# Altium footprint library RAMBo.PcbLib: 56 footprints (part 1 of 4)
Each footprint in its own frame and in the unit in brackets; x right, y up, seen from the top. Pads: shape width x height; smd on the part's side, far side on the other; paste and mask are expansions set on the pad; w line width, h text height; cw(c..) or ccw(c..) is an arc to the next point about the centre after c.
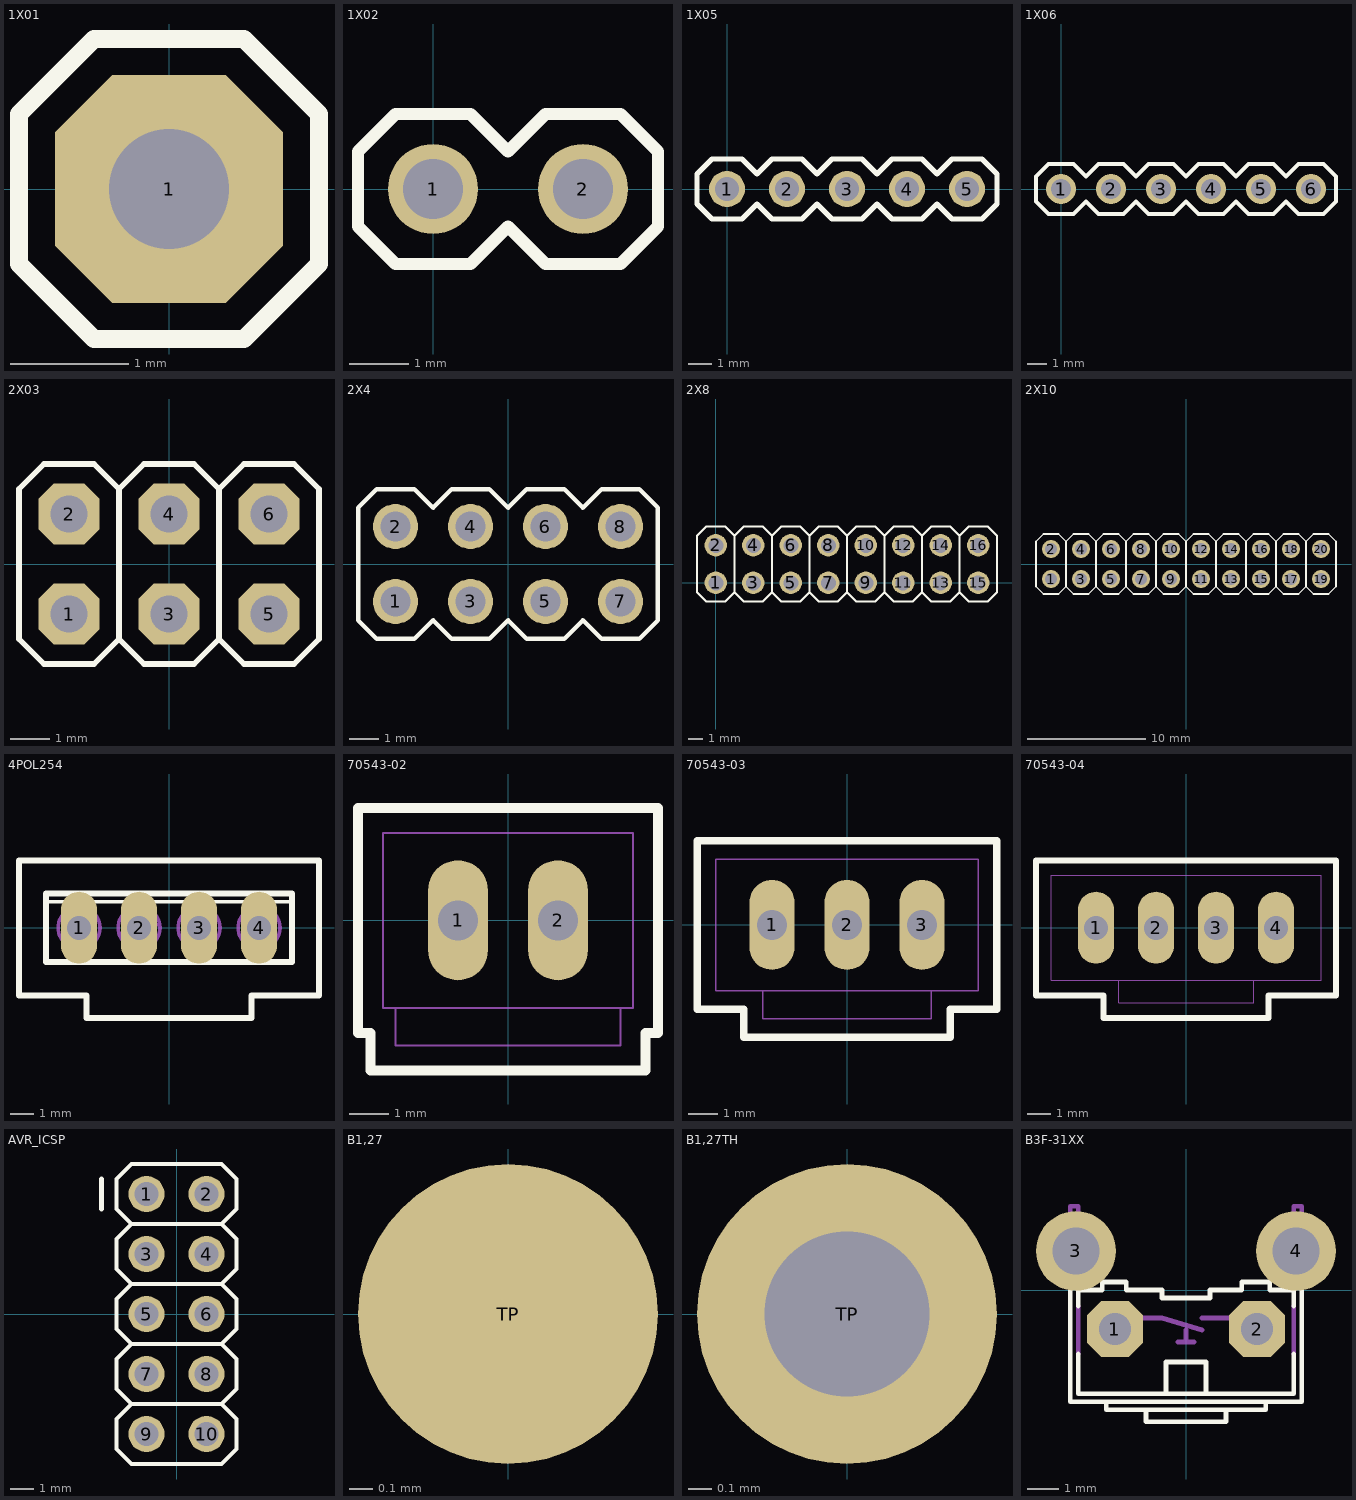
[diagram p0: the footprints below, top view; thin cyan lines are the x and y axes]

## 1X01 [mil] "1X01"
pads (1):
  oct 76x76 hole 40: 1(0,0)
Top Overlay:
  lines w6: -50,-25 -25,-50 25,-50 50,-25 50,25 25,50 -25,50 -50,25 -50,-25
Mechanical 16:
  rectangle: -10,-10 10,10

## 1X02 [mil] "1X02"
pads (2):
  round 60 hole 40: 1(0,0) 2(100,0)
Top Overlay:
  lines w8: -50,-25 -25,-50 25,-50 50,-25 75,-50 125,-50 150,-25 150,25 125,50 75,50 50,25 25,50 -25,50 -50,25 -50,-25
Mechanical 16:
  rectangle: -10,-10 10,10
  rectangle: 90,-10 110,10

## 1X05 [mil] "1X05"
pads (5):
  round 60 hole 40: 1(0,0) 2(100,0) 3(200,0) 4(300,0) 5(400,0)
Top Overlay:
  lines w8: -50,-25 -25,-50 25,-50 50,-25 75,-50 125,-50 150,-25 175,-50 225,-50 250,-25 275,-50 325,-50 350,-25 375,-50 425,-50 450,-25 450,25 425,50 375,50 350,25 325,50 275,50 250,25 225,50 175,50 150,25 125,50 75,50 50,25 25,50 -25,50 -50,25 -50,-25
Mechanical 16:
  rectangle: -10,-10 10,10
  rectangle: 90,-10 110,10
  rectangle: 190,-10 210,10
  rectangle: 290,-10 310,10
  rectangle: 390,-10 410,10

## 1X06 [mil] "1X06"
pads (6):
  round 60 hole 40: 1(0,0) 2(100,0) 3(200,0) 4(300,0) 5(400,0) 6(500,0)
Top Overlay:
  lines w8: -50,-25 -25,-50 25,-50 50,-25 75,-50 125,-50 150,-25 175,-50 225,-50 250,-25 275,-50 325,-50 350,-25 375,-50 425,-50 450,-25 475,-50 525,-50 550,-25 550,25 525,50 475,50 450,25 425,50 375,50 350,25 325,50 275,50 250,25 225,50 175,50 150,25 125,50 75,50 50,25 25,50 -25,50 -50,25 -50,-25
Mechanical 16:
  rectangle: -10,-10 10,10
  rectangle: 90,-10 110,10
  rectangle: 190,-10 210,10
  rectangle: 290,-10 310,10
  rectangle: 390,-10 410,10
  rectangle: 490,-10 510,10

## 2X03 [mil] "2X03"
pads (6):
  oct 61.02x61.02 hole 37.4: 1(-100,-50) 2(-100,50) 3(0,-50) 4(0,50) 5(100,-50) 6(100,50)
Top Overlay:
  lines w6: -50,-75 -50,75 ; -50,-75 -25,-100 25,-100 50,-75 ; -50,-75 -75,-100 -125,-100 -150,-75 -150,75 -125,100 -75,100 -50,75 ; -50,75 -25,100 25,100 50,75 ; 50,-75 75,-100 125,-100 150,-75 150,75 125,100 75,100 50,75 ; 50,-75 50,75
Mechanical 16:
  rectangle: 90,-60 110,-40
  rectangle: 90,40 110,60
  rectangle: -10,-60 10,-40
  rectangle: -10,40 10,60
  rectangle: -110,40 -90,60
  rectangle: -110,-60 -90,-40

## 2X4 [mil] "2X4"
pads (8):
  round 60 hole 40: 1(-150,-50) 2(-150,50) 3(-50,-50) 4(-50,50) 5(50,-50) 6(50,50) 7(150,-50) 8(150,50)
Top Overlay:
  lines w6: -200,-75 -200,75 -175,100 -125,100 -100,75 -75,100 -25,100 0,75 25,100 75,100 100,75 125,100 175,100 200,75 200,-75 175,-100 125,-100 100,-75 75,-100 25,-100 0,-75 -25,-100 -75,-100 -100,-75 -125,-100 -175,-100 -200,-75
Mechanical 16:
  rectangle: 140,-60 160,-40
  rectangle: 140,40 160,60
  rectangle: 40,-60 60,-40
  rectangle: 40,40 60,60
  rectangle: -60,-60 -40,-40
  rectangle: -60,40 -40,60
  rectangle: -160,40 -140,60
  rectangle: -160,-60 -140,-40

## 2X8 [mil] "2X8"
pads (16):
  round 60 hole 40: 1(0,0) 2(0,100) 3(100,0) 4(100,100) 5(200,0) 6(200,100) 7(300,0) 8(300,100) 9(400,0) 10(400,100) 11(500,0) 12(500,100) 13(600,0) 14(600,100) 15(700,0) 16(700,100)
Top Overlay:
  lines w6: 50,-25 50,125 ; 50,-25 75,-50 125,-50 150,-25 ; 50,-25 25,-50 -25,-50 -50,-25 -50,125 -25,150 25,150 50,125 ; 50,125 75,150 125,150 150,125 ; 150,-25 150,125 ; 150,-25 175,-50 225,-50 250,-25 ; 150,125 175,150 225,150 250,125 ; 250,-25 250,125 ; 250,-25 275,-50 325,-50 350,-25 ; 250,125 275,150 325,150 350,125 ; 350,-25 350,125 ; 350,-25 375,-50 425,-50 450,-25 ; 350,125 375,150 425,150 450,125 ; 450,-25 450,125 ; 450,-25 475,-50 525,-50 550,-25 ; 450,125 475,150 525,150 550,125 ; 550,-25 550,125 ; 550,-25 575,-50 625,-50 650,-25 ; 550,125 575,150 625,150 650,125 ; 650,-25 650,125 ; 650,-25 675,-50 725,-50 750,-25 750,125 725,150 675,150 650,125
Mechanical 16:
  rectangle: 690,-10 710,10
  rectangle: 690,90 710,110
  rectangle: 590,-10 610,10
  rectangle: 590,90 610,110
  rectangle: 490,-10 510,10
  rectangle: 390,-10 410,10
  rectangle: 290,-10 310,10
  rectangle: 490,90 510,110
  rectangle: 390,90 410,110
  rectangle: 290,90 310,110
  rectangle: 190,-10 210,10
  rectangle: 190,90 210,110
  rectangle: 90,-10 110,10
  rectangle: 90,90 110,110
  rectangle: -10,90 10,110
  rectangle: -10,-10 10,10

## 2X10 [mil] "2X10"
pads (20):
  round 60 hole 40: 1(-450,-50) 2(-450,50) 3(-350,-50) 4(-350,50) 5(-250,-50) 6(-250,50) 7(-150,-50) 8(-150,50) 9(-50,-50) 10(-50,50) 11(50,-50) 12(50,50) 13(150,-50) 14(150,50) 15(250,-50) 16(250,50) 17(350,-50) 18(350,50) 19(450,-50) 20(450,50)
Top Overlay:
  lines w6: -400,-75 -400,75 ; -400,-75 -375,-100 -325,-100 -300,-75 ; -400,-75 -425,-100 -475,-100 -500,-75 -500,75 -475,100 -425,100 -400,75 ; -400,75 -375,100 -325,100 -300,75 ; -300,-75 -300,75 ; -300,-75 -275,-100 -225,-100 -200,-75 ; -300,75 -275,100 -225,100 -200,75 ; -200,-75 -200,75 ; -200,-75 -175,-100 -125,-100 -100,-75 ; -200,75 -175,100 -125,100 -100,75 ; -100,-75 -100,75 ; -100,-75 -75,-100 -25,-100 0,-75 ; -100,75 -75,100 -25,100 0,75 ; 0,-75 0,75 ; 0,-75 25,-100 75,-100 100,-75 ; 0,75 25,100 75,100 100,75 ; 100,-75 100,75 ; 100,-75 125,-100 175,-100 200,-75 ; 100,75 125,100 175,100 200,75 ; 200,-75 200,75 ; 200,-75 225,-100 275,-100 300,-75 ; 200,75 225,100 275,100 300,75 ; 300,-75 300,75 ; 300,-75 325,-100 375,-100 400,-75 ; 300,75 325,100 375,100 400,75 ; 400,-75 425,-100 475,-100 500,-75 500,75 475,100 425,100 400,75 ; 400,-75 400,75
Mechanical 16:
  rectangle: 440,-60 460,-40
  rectangle: 440,40 460,60
  rectangle: 340,-60 360,-40
  rectangle: 340,40 360,60
  rectangle: 240,-60 260,-40
  rectangle: 240,40 260,60
  rectangle: 140,-60 160,-40
  rectangle: 140,40 160,60
  rectangle: 40,-60 60,-40
  rectangle: -60,-60 -40,-40
  rectangle: -160,-60 -140,-40
  rectangle: 40,40 60,60
  rectangle: -60,40 -40,60
  rectangle: -160,40 -140,60
  rectangle: -260,-60 -240,-40
  rectangle: -260,40 -240,60
  rectangle: -360,-60 -340,-40
  rectangle: -360,40 -340,60
  rectangle: -460,40 -440,60
  rectangle: -460,-60 -440,-40

## 4POL254 [mil] "4POL254"
pads (4):
  oval 60x120 hole 40: 1(-150,0) 2(-50,0) 3(50,0) 4(150,0)
Top Overlay:
  lines w6: -200.79,43.31 200.79,43.31
  lines w10: -250,-112.5 -137.5,-112.5 -137.5,-150 137.5,-150 137.5,-112.5 250,-112.5 250,112.5 -250,112.5 -250,-112.5 ; -205.12,-57.09 -205.12,57.09 205.12,57.09 205.12,-57.09 -205.12,-57.09
Mechanical 16:
  circle w6: c150,0 r35
  circle w6: c50,0 r35
  circle w6: c-50,0 r35
  circle w6: c-150,0 r35
  lines w6: -175,-20 -130,25 ; -80,-10 -20,5 ; 30,25 70,-25 ; 120,15 180,-15

## 70543-02 [mil] "70543-02"
pads (2):
  oval 60x120 hole 40: 1(-50,0) 2(50,0)
Top Overlay:
  lines w10: -150,-112.5 -137.5,-112.5 -137.5,-150 137.5,-150 137.5,-112.5 150,-112.5 150,112.5 -150,112.5 -150,-112.5
Mechanical 16:
  rectangle: -59.37,-9.37 -40.63,9.37
  rectangle: 40.63,-9.37 59.37,9.37
  lines w2: -112.5,-87.5 -112.5,-125 112.5,-125 112.5,-87.5 ; -112.5,-87.5 112.5,-87.5 ; -112.5,-87.5 -125,-87.5 -125,87.5 125,87.5 125,-87.5 112.5,-87.5
  text "1" at -112.5,-62.5 h62

## 70543-03 [mil] "70543-03"
pads (3):
  oval 60x120 hole 40: 1(-100,0) 2(0,0) 3(100,0)
Top Overlay:
  lines w10: -200,-112.5 -137.5,-112.5 -137.5,-150 137.5,-150 137.5,-112.5 200,-112.5 200,112.5 -200,112.5 -200,-112.5
Mechanical 16:
  rectangle: 90.63,-9.37 109.37,9.37
  rectangle: -109.37,-9.37 -90.63,9.37
  rectangle: -9.37,-9.37 9.37,9.37
  lines w2: -112.5,-87.5 -112.5,-125 112.5,-125 112.5,-87.5 ; -112.5,-87.5 112.5,-87.5 ; -112.5,-87.5 -175,-87.5 -175,87.5 175,87.5 175,-87.5 112.5,-87.5
  text "1" at -162.5,-62.5 h62

## 70543-04 [mil] "70543-04"
pads (4):
  oval 60x120 hole 40: 1(-150,0) 2(-50,0) 3(50,0) 4(150,0)
Top Overlay:
  lines w10: -250,-112.5 -137.5,-112.5 -137.5,-150 137.5,-150 137.5,-112.5 250,-112.5 250,112.5 -250,112.5 -250,-112.5
Mechanical 16:
  rectangle: 40.63,-9.37 59.37,9.37
  rectangle: 140.63,-9.37 159.37,9.37
  rectangle: -159.37,-9.37 -140.63,9.37
  rectangle: -59.37,-9.37 -40.63,9.37
  lines w2: -112.5,-87.5 -112.5,-125 112.5,-125 112.5,-87.5 ; -112.5,-87.5 112.5,-87.5 ; -112.5,-87.5 -225,-87.5 -225,87.5 225,87.5 225,-87.5 112.5,-87.5
  text "1" at -212.5,-62.5 h62

## AVR_ICSP [mil] "AVR_ICSP"
pads (10):
  round 60 hole 40: 1(-50,200) 2(50,200) 3(-50,100) 4(50,100) 5(-50,0) 6(50,0) 7(-50,-100) 8(50,-100) 9(-50,-200) 10(50,-200)
Top Overlay:
  rectangle: -60,-10 -40,10
  lines w6: -75,-150 -100,-175 -100,-225 -75,-250 75,-250 100,-225 100,-175 75,-150 ; -75,-150 75,-150 ; -75,-150 -100,-125 -100,-75 -75,-50 ; -75,-50 75,-50 ; -75,-50 -100,-25 -100,25 -75,50 ; -75,50 75,50 ; -75,50 -100,75 -100,125 -75,150 ; -75,150 75,150 ; -75,150 -100,175 -100,225 -75,250 75,250 100,225 100,175 75,150 ; 75,-150 100,-125 100,-75 75,-50 ; 75,-50 100,-25 100,25 75,50 ; 75,50 100,75 100,125 75,150
  lines w8: -125,175 -125,225
Mechanical 16:
  rectangle: 40,-110 60,-90
  rectangle: -60,-110 -40,-90
  rectangle: -60,-210 -40,-190
  rectangle: 40,-210 60,-190
  rectangle: 40,-10 60,10
  rectangle: -60,90 -40,110
  rectangle: 40,90 60,110
  rectangle: 40,190 60,210
  rectangle: -60,190 -40,210

## B1,27 [mil] "B1,27"
pads (1):
  rrect100% 50x50 smd: TP(0,0)
Mechanical 16:
  lines w0.09: -25,0 25,0 ; 0,-25 0,25
Mechanical 25:
  text ">TP_SIGNAL_NAME" at -25,-75 h61.02

## B1,27TH [mil] "B1,27TH"
pads (1):
  round 50 hole 27.56: TP(0,0)

## B3F-31XX [mil] "B3F-31XX"
pads (4):
  oct 70x70 hole 40: 1(-89,-49) 2(89,-49)
  round 100 hole 59: 3(-138,49) 4(138,49)
Top Overlay:
  lines w6: -145,0 -145,-140 100,-140 ; -135,-80 -135,-130 -25,-130 ; -135,-20 -135,0 -105,0 -105,10 -75,10 -75,0 -30,0 -30,-10 30,-10 30,0 70,0 70,10 105,10 105,0 135,0 135,-20 ; -100,-140 -100,-150 -50,-150 ; 135,-80 135,-130 25,-130 ; 145,0 145,-140 100,-140 ; -50,-150 50,-150 ; -50,-150 -50,-165 50,-165 50,-150 ; -25,-130 25,-130 ; -25,-130 -25,-90 25,-90 25,-130 ; 50,-150 100,-150 100,-140
Mechanical 16:
  lines w6: -145,0 -145,105 -135,105 -135,0 ; -135,-80 -135,-20 ; -65,-35 -30,-35 20,-50 ; -10,-65 0,-65 ; 0,-50 0,-65 ; 10,-65 0,-65 ; 20,-35 65,-35 ; 135,-80 135,-20 ; 135,0 135,105 145,105 145,0